# Altium schematic symbol library ADL5330.SchLib: 1 symbol
Pins are listed as number, name and electrical type; pins without a type are passive.

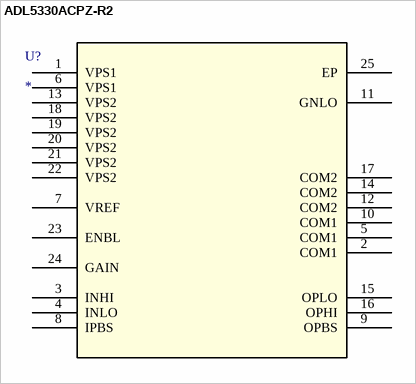
[diagram p0: symbol ADL5330ACPZ-R2]

## ADL5330ACPZ-R2
designator U?
10 MHz to 3 GHz VGA with 60 dB Gain Control Range; Value: Value; Type: Type; RefDes: RefDes
footprint CP_24_2
pins: 1 VPS1, 2 COM1, 3 INHI, 4 INLO, 5 COM1, 6 VPS1, 7 VREF, 8 IPBS, 9 OPBS, 10 COM1, 11 GNLO, 12 COM2, 13 VPS2, 14 COM2, 15 OPLO, 16 OPHI, 17 COM2, 18 VPS2, 19 VPS2, 20 VPS2, 21 VPS2, 22 VPS2, 23 ENBL, 24 GAIN, 25 EP